# Altium integrated library VLF10040T-4R7N5R4.IntLib: 1 symbol
Pins are listed as number, name and electrical type; pins without a type are passive.

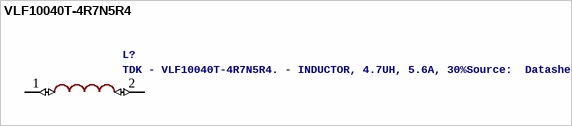
[diagram p0: symbol VLF10040T-4R7N5R4]

## VLF10040T-4R7N5R4
designator L?, comment TDK - VLF10040T-4R7N5R4. - INDUCTOR, 4.7UH, 5.6A, 30%Source:  Datasheet
GateName_1: G$1; SymbolName_1: VLF10040T-4R7N5R4; LibraryName: VLF10040T-4R7N5R4; DeviceSetName: VLF10040T-4R7N5R4; Package: VLF10045; Manufacturer_Name: TDK; Manufacturer_Part_Number: VLF10040T-4R7N5R4; RS_Part_Number: 6442185P; RS_Price-Stock: http://uk.rs-online.com/web/p/products/6442185P; Arrow_Part_Number: VLF10040T-4R7N5R4; Arrow_Price-Stock: http://www.arrow.com/en/products/vlf10040t-4r7n5r4/tdk; Description: TDK - VLF10040T-4R7N5R4. - INDUCTOR, 4.7UH, 5.6A, 30%; Height: mm
footprint VLF10045
pins: 1 (io), 2 (io)